# Altium schematic symbol library Schlib1.SchLib: 7 symbols
Pins are listed as number, name and electrical type; pins without a type are passive.

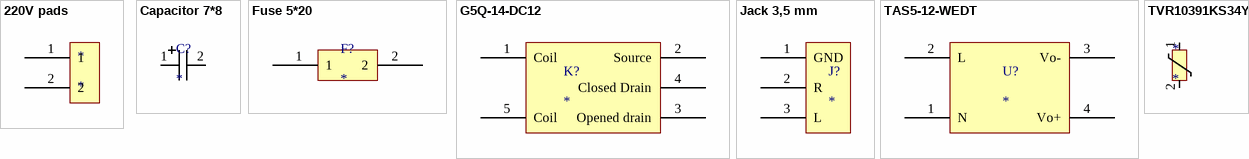
[diagram p0: symbols 220V pads to TVR10391KS34Y]

## 220V pads
designator *
footprint 220V pads
pins: 1, 2

## Capacitor 7*8
designator C?
footprint Capacitor 7*8
pins: 1, 2

## Fuse 5*20
designator F?
ComponentLink1Description: https://lcsc.com/product-detail/span-style-background-color-ff0-Fuse-span-Holders_Xucheng-Elec-C3130_C3130.html; ComponentLink1URL: *
footprint Fuse 5*20
pins: 1, 2

## G5Q-14-DC12
designator K?
ComponentLink1Description: https://lcsc.com/product-detail/Relays_Omron-Electronics-G5Q-14-DC12_C225715.html; ComponentLink1URL: *
footprint G5Q-14-DC12
pins: 1 Coil, 2 Source, 3 Opened drain, 4 Closed Drain, 5 Coil

## Jack 3,5 mm
designator J?
ComponentLink1Description: https://lcsc.com/product-detail/Audio-Video-Connectors_BOOMELE-Boom-Precision-Elec-PJ-307C_C16684.html; ComponentLink1URL: *
footprint jack 3,5mm
pins: 1 GND, 2 R, 3 L

## TAS5-12-WEDT
designator U?
ComponentLink1Description: https://lcsc.com/product-detail/Power-Modules_TDPOWER-TAS5-12-WEDT_C2687652.html; ComponentLink1URL: *
footprint TAS5-12-WEDT
pins: 1 N, 2 L, 3 Vo-, 4 Vo+

## TVR10391KS34Y
designator *
ComponentLink1Description: https://lcsc.com/product-detail/Varistors_TKS-TVR10391KS34Y_C2760960.html; ComponentLink1URL: *
footprint TVR10391KS34Y
pins: 1, 2